# EAGLE library part E28 (library e28)
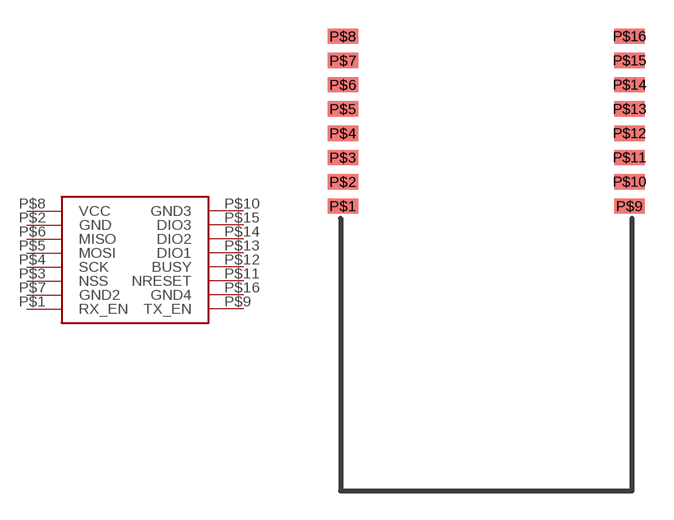
[diagram p0: symbol with the pads of E28; footprint E28]

Designator prefix -

## E28  [E28]
P$1  RX_EN
P$2  GND
P$3  NSS
P$4  SCK
P$5  MOSI
P$6  MISO
P$7  GND2
P$8  VCC
P$9  TX_EN
P$10  GND3
P$11  NRESET
P$12  BUSY
P$13  DIO1
P$14  DIO2
P$15  DIO3
P$16  GND4

## Footprint E28 (pad centres in mm)
smd 1.6 x 0.8: P$1 -7.5,-4.445; P$2 -7.5,-3.175; P$3 -7.5,-1.905; P$4 -7.5,-0.635; P$5 -7.5,0.635; P$6 -7.5,1.905; P$7 -7.5,3.175; P$8 -7.5,4.445; P$9 7.5,-4.445; P$10 7.5,-3.175; P$11 7.5,-1.905; P$12 7.5,-0.635; P$13 7.5,0.635; P$14 7.5,1.905; P$15 7.5,3.175; P$16 7.5,4.445